# EAGLE library part XC3S1400AFG676 (library xilinx_spartan3_virtex4_and_5)
Xilinx FPGA
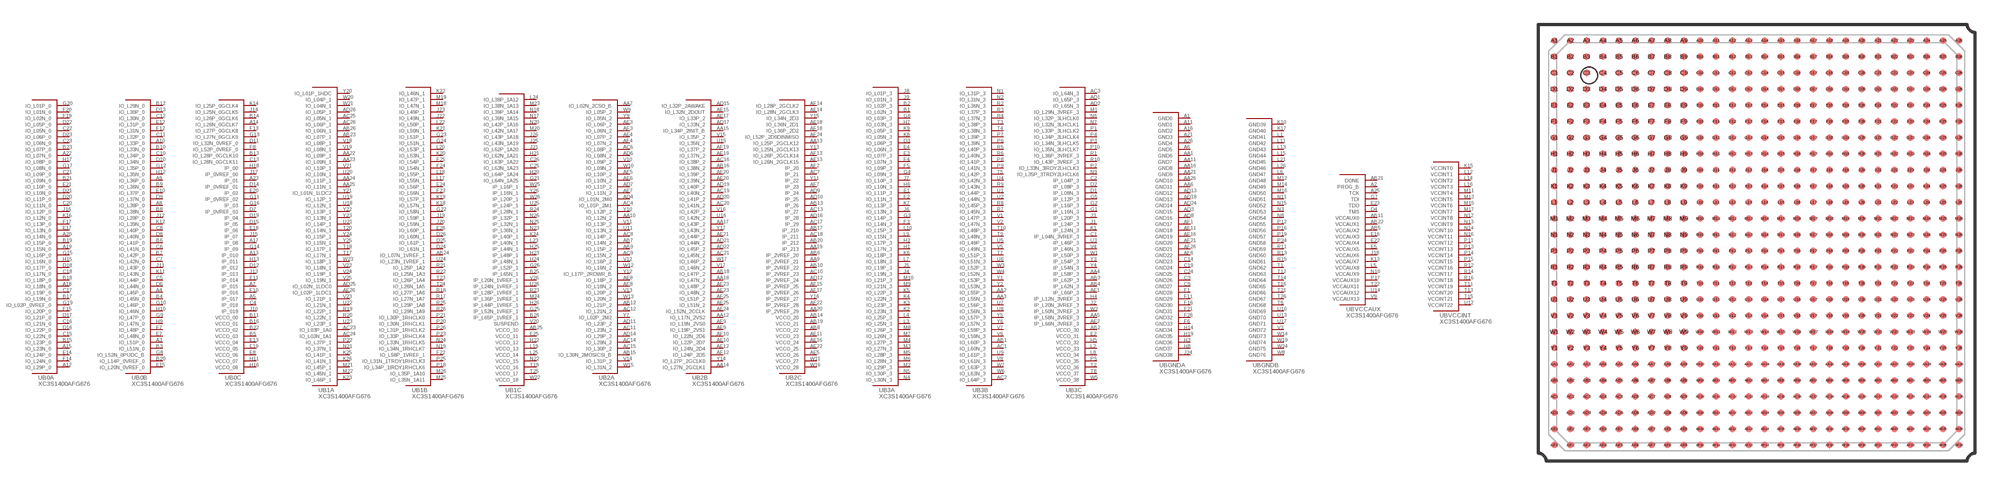
[diagram p38: symbol with the pads of FG676; footprint FG676]

Designator prefix U; gates B0A=XC3S1400AFG676_0A B0B=XC3S1400AFG676_0B B0C=XC3S1400AFG676_0C B1A=XC3S1400AFG676_1A B1B=XC3S1400AFG676_1B B1C=XC3S1400AFG676_1C B2A=XC3S1400AFG676_2A B2B=XC3S1400AFG676_2B B2C=XC3S1400AFG676_2C B3A=XC3S1400AFG676_3A B3B=XC3S1400AFG676_3B B3C=XC3S1400AFG676_3C BGNDA=XC3S1400AFG676_GNDA BGNDB=XC3S1400AFG676_GNDB BVCCAUX=XC3S1400AFG676_VCCAUX BVCCINT=XC3S1400AFG676_VCCINT

## XC3S1400AFG676  [FG676]
A1  BGNDA:GND0  pas
A2  BVCCAUX:PROG_B
A3  B0B:IO_L51P_0
A4  B0B:IO_L45P_0
A5  B0C:IP_017
A6  BGNDA:GND5  pas
A7  B0C:IP_015
A8  B0B:IO_L38P_0
A9  B0B:IO_L36P_0
A10  B0B:IO_L33P_0
A11  BGNDA:GND1  pas
A12  B0A:IO_L29P_0
A13  B0C:IP_010
A14  B0C:IO_L26N_0GCLK7
A15  B0A:IO_L23N_0
A16  BGNDA:GND2  pas
A17  B0C:IP_08
A18  B0A:IO_L18N_0
A19  B0A:IO_L15N_0
A20  B0A:IO_L14N_0
A21  BGNDA:GND3  pas
A22  B0A:IO_L07N_0
A23  B0C:IP_01
A25  BVCCAUX:TCK
A26  BGNDA:GND4  pas
AA1  BGNDA:GND6  pas
AA2  B3B:IO_L55P_3
AA3  B3B:IO_L55N_3
AA4  B3C:IP_L58P_3
AA5  B3C:IP_L58N_3VREF_3
AA6  BGNDA:GND11  pas
AA7  B2A:IO_L02N_2CSO_B
AA9  B2C:IP_2VREF_21
AA10  B2A:IO_L12N_2
AA11  BGNDA:GND7  pas
AA12  B2B:IO_L17N_2VS2
AA13  B2C:IO_L25P_2GCLK12
AA14  B2B:IO_L27N_2GCLK1
AA15  B2B:IO_L34P_2INIT_B
AA16  BGNDA:GND8  pas
AA17  B2B:IO_L43P_2
AA18  B2B:IO_L47N_2
AA19  B2C:IP_213
AA20  B2C:IP_2VREF_29
AA21  BGNDA:GND9  pas
AA22  B1A:IO_L09P_1
AA23  B1A:IO_L09N_1
AA24  B1A:IO_L11P_1
AA25  B1A:IO_L11N_1
AA26  BGNDA:GND10  pas
AB1  B3B:IO_L60P_3
AB2  B3C:VCCO_30  pas
AB3  B3C:IP_L62P_3
AB4  B3C:IP_L62N_3
AB5  BVCCAUX:VCCAUX2  pas
AB6  B2C:IP_2VREF_20
AB7  B2A:IO_L14N_2
AB8  B2C:VCCO_22  pas
AB9  B2A:IO_L15P_2
AB10  B2C:IP_2VREF_22
AB11  BVCCAUX:VCCAUX0  pas
AB12  B2A:IO_L21P_2
AB13  B2C:IP_26
AB14  B2C:VCCO_20  pas
AB15  B2A:IO_L30N_2MOSICSI_B
AB16  B2B:IO_L38N_2
AB17  B2C:IP_210
AB18  B2B:IO_L47P_2
AB19  B2C:VCCO_21  pas
AB20  B2C:IP_212
AB21  BVCCAUX:DONE
AB22  BVCCAUX:VCCAUX1  pas
AB23  B1A:IO_L07P_1
AB24  B1B:IO_L07N_1VREF_1
AB25  B1C:VCCO_10  pas
AB26  B1A:IO_L06N_1
AC1  B3B:IO_L60N_3
AC2  B3B:IO_L64P_3
AC3  B3C:IO_L64N_3
AC4  B2A:IO_L01P_2M1
AC6  B2A:IO_L08P_2
AC7  B2C:IP_21
AC8  B2A:IO_L14P_2
AC9  B2A:IO_L15N_2
AC10  B2C:IP_2VREF_23
AC11  B2A:IO_L23N_2
AC12  B2A:IO_L21N_2
AC13  B2C:IP_27
AC14  B2A:IO_L29N_2
AC15  B2A:IO_L30P_2
AC16  B2B:IO_L38P_2
AC17  B2C:IP_29
AC18  B2C:IP_211
AC19  B2B:IO_L40N_2
AC20  B2B:IO_L41N_2
AC21  B2B:IO_L45N_2
AC23  B1A:IO_L03P_1A0
AC24  B1A:IO_L03N_1A1
AC25  B1A:IO_L05N_1
AC26  B1A:IO_L06P_1
AD1  B3C:IO_L65P_3
AD2  B3C:IO_L65N_3
AD3  BGNDA:GND15  pas
AD4  B2A:IO_L01N_2M0
AD6  B2A:IO_L08N_2
AD7  B2A:IO_L11P_2
AD8  BGNDA:GND16  pas
AD9  B2C:IP_24
AD10  B2C:IP_25
AD11  B2A:IO_L23P_2
AD12  B2C:IP_2VREF_24
AD13  BGNDA:GND12  pas
AD14  B2A:IO_L29P_2
AD15  B2B:IO_L32P_2AWAKE
AD16  B2C:IP_28
AD17  B2B:IO_L33N_2
AD18  BGNDA:GND13  pas
AD19  B2B:IO_L40P_2
AD20  B2B:IO_L41P_2
AD21  B2B:IO_L44N_2
AD22  B2B:IO_L45P_2
AD24  BGNDA:GND14  pas
AD25  B1A:IO_L02N_1LDC0
AD26  B1A:IO_L05P_1
AE1  B3C:IP_L66P_3
AE2  B3C:IP_L66N_3VREF_3
AE3  B2A:IO_L06P_2
AE4  B2A:IO_L07P_2
AE5  B2C:VCCO_26  pas
AE6  B2A:IO_L10N_2
AE7  B2A:IO_L11N_2
AE8  B2A:IO_L18P_2
AE9  B2B:IO_L19P_2VS1
AE10  B2B:IO_L22P_2D7
AE11  B2C:VCCO_23  pas
AE12  B2B:IO_L24N_2D4
AE13  B2C:IO_L26N_2GCLK15
AE14  B2C:IO_L28N_2GCLK3
AE15  B2B:IO_L32N_2DOUT
AE16  B2C:VCCO_24  pas
AE17  B2B:IO_L33P_2
AE18  B2C:IO_L36N_2D1
AE19  B2B:IO_L37N_2
AE20  B2B:IO_L39N_2
AE21  B2B:IO_L44P_2
AE22  B2C:VCCO_25  pas
AE23  B2B:IO_L48N_2
AE24  B2B:IO_L52N_2CCLK
AE25  B2B:IO_L51N_2
AE26  B1A:IO_L02P_1LDC1
AF1  BGNDA:GND17  pas
AF2  B2C:IP_20
AF3  B2A:IO_L06N_2
AF4  B2A:IO_L07N_2
AF5  B2A:IO_L10P_2
AF6  BGNDA:GND22  pas
AF7  B2C:IP_23
AF8  B2A:IO_L18N_2
AF9  B2B:IO_L19N_2VS0
AF10  B2B:IO_L22N_2D6
AF11  BGNDA:GND18  pas
AF12  B2B:IO_L24P_2D5
AF13  B2C:IO_L26P_2GCLK14
AF14  B2C:IO_L28P_2GCLK2
AF15  B2C:IP_2VREF_25
AF16  BGNDA:GND19  pas
AF17  B2C:IP_2VREF_26
AF18  B2C:IO_L36P_2D2
AF19  B2B:IO_L37P_2
AF20  B2B:IO_L39P_2
AF21  BGNDA:GND20  pas
AF22  B2C:IP_2VREF_28
AF23  B2B:IO_L48P_2
AF24  B2C:IO_L52P_2D0DINMISO
AF25  B2B:IO_L51P_2
AF26  BGNDA:GND21  pas
B1  B3A:IO_L02N_3
B2  B3A:IO_L02P_3
B3  B0B:IO_L51N_0
B4  B0B:IO_L45N_0
B5  B0C:VCCO_03  pas
B6  B0B:IO_L41P_0
B7  B0B:IO_L42P_0
B8  B0B:IO_L38N_0
B9  B0B:IO_L36N_0
B10  B0B:IO_L33N_0
B11  B0C:VCCO_00  pas
B12  B0B:IO_L29N_0
B13  B0C:IO_L28P_0GCLK10
B14  B0C:IO_L26P_0GCLK6
B15  B0A:IO_L23P_0
B16  B0C:VCCO_01  pas
B17  B0A:IO_L19N_0
B18  B0A:IO_L18P_0
B19  B0A:IO_L15P_0
B20  B0B:IO_L14P_0VREF_0
B21  B0A:IO_L09N_0
B22  B0C:VCCO_02  pas
B23  B0A:IO_L07P_0
B25  B1C:IP_L65N_1
B26  B1C:IP_L65P_1VREF_1
C1  B3C:IP_L04N_3VREF_3
C2  B3C:IP_L04P_3
C3  BGNDA:GND26  pas
C4  B0C:IP_018
C5  B0B:IO_L44P_0
C6  B0B:IO_L41N_0
C7  B0B:IO_L42N_0
C8  B0B:IO_L40P_0
C9  BGNDA:GND27  pas
C10  B0B:IO_L34P_0
C11  B0B:IO_L32P_0
C12  B0B:IO_L30N_0
C13  B0C:IO_L28N_0GCLK11
C14  BGNDA:GND23  pas
C15  B0A:IO_L22N_0
C16  B0A:IO_L21N_0
C17  B0A:IO_L19P_0
C18  B0A:IO_L17N_0
C19  BGNDA:GND24  pas
C20  B0A:IO_L11N_0
C21  B0A:IO_L09P_0
C22  B0A:IO_L05N_0
C23  B0A:IO_L06N_0
C24  BGNDA:GND25  pas
C25  B1C:IO_L63N_1A23
C26  B1C:IO_L63P_1A22
D1  B3C:IP_L08N_3
D2  B3C:IP_L08P_3
D3  B3A:IO_L06P_3
D4  BVCCAUX:TMS
D6  B0B:IO_L44N_0
D7  B0C:IP_0VREF_03
D8  B0B:IO_L40N_0
D9  B0B:IO_L37N_0
D10  B0B:IO_L34N_0
D11  B0C:IO_L32N_0VREF_0
D12  B0C:IP_012
D13  B0B:IO_L30P_0
D14  B0C:IP_0VREF_01
D15  B0C:IP_05
D16  B0A:IO_L22P_0
D17  B0A:IO_L21P_0
D18  B0A:IO_L17P_0
D19  B0C:IP_04
D20  B0A:IO_L11P_0
D21  B0A:IO_L10N_0
D22  B0A:IO_L05P_0
D23  B0A:IO_L06P_0
D24  B1B:IO_L61N_1
D25  B1B:IO_L61P_1
D26  B1B:IO_L60N_1
E1  B3A:IO_L11P_3
E2  B3C:VCCO_31  pas
E3  B3A:IO_L07P_3
E4  B3A:IO_L06N_3
E5  BVCCAUX:VCCAUX5  pas
E7  B0B:IO_L48N_0
E8  B0C:VCCO_06  pas
E10  B0B:IO_L37P_0
E11  B0C:IP_014
E12  B0B:IO_L31P_0
E13  B0C:VCCO_04  pas
E14  B0A:IO_L24P_0
E15  B0B:IO_L20N_0VREF_0
E16  BVCCAUX:VCCAUX3  pas
E17  B0A:IO_L13N_0
E18  B0C:IP_06
E19  B0C:VCCO_05  pas
E20  B0C:IP_02
E21  B0A:IO_L10P_0
E22  BVCCAUX:VCCAUX4  pas
E23  BVCCAUX:TDO
E24  B1B:IO_L56P_1
E25  B1C:VCCO_11  pas
E26  B1B:IO_L60P_1
F1  BGNDA:GND28  pas
F2  B3A:IO_L11N_3
F3  B3A:IO_L14N_3
F4  B3A:IO_L07N_3
F5  B3A:IO_L09P_3
F6  BGNDA:GND33  pas
F7  B0B:IO_L48P_0
F8  B0C:IO_L52P_0VREF_0
F10  B0C:IP_016
F11  BGNDA:GND29  pas
F12  B0B:IO_L31N_0
F13  B0C:IO_L27P_0GCLK8
F14  B0A:IO_L24N_0
F15  B0A:IO_L20P_0
F16  BGNDA:GND30  pas
F17  B0A:IO_L13P_0
F19  B0A:IO_L02N_0
F20  B0A:IO_L01N_0
F21  BGNDA:GND31  pas
F22  B1B:IO_L58P_1VREF_1
F23  B1B:IO_L56N_1
F24  B1B:IO_L54N_1
F25  B1B:IO_L54P_1
F26  BGNDA:GND32  pas
G1  B3C:IP_L16N_3
G2  B3C:IP_L16P_3
G3  B3A:IO_L14P_3
G4  B3A:IO_L09N_3
G5  B3C:IP_L12P_3
G6  B3A:IO_L03P_3
G7  BVCCAUX:TDI
G8  B0B:IO_L52N_0PUDC_B
G9  B0B:IO_L47P_0
G10  B0B:IO_L46P_0
G11  B0C:IP_0VREF_02
G12  B0B:IO_L35P_0
G13  B0C:IO_L27N_0GCLK9
G14  B0C:IP_09
G15  B0A:IO_L16P_0
G16  B0C:IP_03
G17  B0A:IO_L08N_0
G19  B0A:IO_L02P_0VREF_0
G20  B0A:IO_L01P_0
G21  B1C:IO_L64N_1A25
G22  B1B:IO_L58N_1
G23  B1B:IO_L51P_1
G24  B1B:IO_L51N_1
G25  B1C:IP_L52N_1VREF_1
G26  B1C:IP_L52P_1
H1  B3A:IO_L17N_3
H2  B3A:IO_L17P_3
H3  BGNDA:GND36  pas
H4  B3C:IP_L12N_3VREF_3
H5  B3C:VCCO_32  pas
H6  B3A:IO_L10N_3
H7  B3A:IO_L03N_3
H8  BGNDA:GND37  pas
H9  B0B:IO_L47N_0
H10  B0B:IO_L46N_0
H11  B0C:VCCO_07  pas
H12  B0B:IO_L35N_0
H13  B0C:IP_011
H14  BGNDA:GND34  pas
H15  B0A:IO_L16N_0
H16  B0C:VCCO_08  pas
H17  B0A:IO_L08P_0
H18  B0C:IP_00
H19  BGNDA:GND35  pas
H20  B1C:IO_L64P_1A24
H21  B1C:IO_L62N_1A21
H22  B1C:VCCO_12  pas
H23  B1C:IP_L48P_1
H24  B1C:IP_L48N_1
H25  B1C:IP_L44N_1
H26  B1C:IP_L44P_1VREF_1
J1  B3C:IP_L24P_3
J2  B3C:IP_L20N_3VREF_3
J3  B3C:IP_L20P_3
J4  B3A:IO_L19N_3
J5  B3A:IO_L19P_3
J6  B3A:IO_L13N_3
J7  B3A:IO_L10P_3
J8  B3A:IO_L01P_3
J9  B3A:IO_L01N_3
J10  B0C:IP_019
J11  B0B:IO_L43P_0
J12  B0B:IO_L39P_0
J13  B0C:IP_013
J14  B0C:IO_L25N_0GCLK5
J15  B0C:IP_07
J16  B0A:IO_L12P_0
J17  B0C:IP_0VREF_00
J18  BVCCAUX:VCCAUX6  pas
J19  B1B:IO_L59P_1
J20  B1B:IO_L59N_1
J21  B1C:IO_L62P_1A20
J22  B1B:IO_L49N_1
J23  B1B:IO_L49P_1
J24  BGNDA:GND38  pas
J25  B1C:IO_L43N_1A19
J26  B1C:IO_L43P_1A18
K1  B3C:IP_L24N_3
K2  B3A:IO_L23N_3
K3  B3A:IO_L23P_3
K4  B3A:IO_L22N_3
K5  B3A:IO_L22P_3
K6  B3A:IO_L18P_3
K7  B3A:IO_L13P_3
K8  B3A:IO_L05N_3
K9  B3A:IO_L05P_3
K10  BGNDB:GND39  pas
K11  B0B:IO_L43N_0
K12  B0B:IO_L39N_0
K13  BVCCAUX:VCCAUX7  pas
K14  B0C:IO_L25P_0GCLK4
K15  BVCCINT:VCCINT0  pas
K16  B0A:IO_L12N_0
K17  BGNDB:GND40  pas
K18  B1B:IO_L57N_1
K19  B1B:IO_L57P_1
K20  B1B:IO_L53N_1
K21  B1B:IO_L50N_1
K22  B1B:IO_L46N_1
K23  B1A:IO_L46P_1
K24  B1C:IP_L40P_1
K25  B1A:IO_L41P_1
K26  B1A:IO_L41N_1
L1  BGNDB:GND41  pas
L2  B3C:VCCO_33  pas
L3  B3A:IO_L25N_3
L4  B3A:IO_L25P_3
L5  BVCCAUX:VCCAUX8  pas
L6  BGNDB:GND47  pas
L7  B3A:IO_L18N_3
L8  B3C:VCCO_34  pas
L9  B3A:IO_L15N_3
L10  B3A:IO_L15P_3
L11  BGNDB:GND42  pas
L12  BVCCINT:VCCINT1  pas
L13  BGNDB:GND43  pas
L14  BVCCINT:VCCINT2  pas
L15  BGNDB:GND44  pas
L16  BVCCINT:VCCINT3  pas
L17  B1B:IO_L55N_1
L18  B1B:IO_L55P_1
L19  B1C:VCCO_13  pas
L20  B1B:IO_L53P_1
L21  BGNDB:GND45  pas
L22  B1B:IO_L50P_1
L23  B1C:IP_L40N_1
L24  B1C:IO_L38P_1A12
L25  B1C:VCCO_14  pas
L26  BGNDB:GND46  pas
M1  B3C:IO_L29N_3VREF_3
M2  B3A:IO_L29P_3
M3  B3A:IO_L27N_3
M4  B3A:IO_L27P_3
M5  B3A:IO_L28P_3
M6  B3A:IO_L28N_3
M7  B3A:IO_L26N_3
M8  B3A:IO_L26P_3
M9  B3A:IO_L21N_3
M10  B3A:IO_L21P_3
M11  BVCCINT:VCCINT4  pas
M12  BGNDB:GND48  pas
M13  BVCCINT:VCCINT5  pas
M14  BGNDB:GND49  pas
M15  BVCCINT:VCCINT6  pas
M16  BGNDB:GND50  pas
M17  BVCCINT:VCCINT7  pas
M18  B1B:IO_L47N_1
M19  B1B:IO_L47P_1
M20  B1C:IO_L42N_1A17
M21  B1A:IO_L45P_1
M22  B1A:IO_L45N_1
M23  B1C:IO_L38N_1A13
M24  B1C:IP_L36P_1VREF_1
M25  B1B:IO_L35N_1A11
M26  B1B:IO_L35P_1A10
N1  B3B:IO_L31P_3
N2  B3B:IO_L31N_3
N3  BGNDB:GND53  pas
N4  B3A:IO_L30N_3
N5  B3A:IO_L30P_3
N6  B3C:IO_L32P_3LHCLK0
N7  B3C:IO_L32N_3LHCLK1
N8  BGNDB:GND54  pas
N9  B3C:IO_L35P_3TRDY2LHCLK6
N10  BVCCAUX:VCCAUX9  pas
N11  BGNDB:GND51  pas
N12  BVCCINT:VCCINT8  pas
N13  BVCCINT:VCCINT9  pas
N14  BVCCINT:VCCINT10  pas
N15  BGNDB:GND52  pas
N16  BVCCINT:VCCINT11  pas
N17  B1C:IO_L39N_1A15
N18  B1C:IO_L39P_1A14
N19  B1B:IO_L34N_1RHCLK7
N20  B1C:IO_L42P_1A16
N21  B1A:IO_L37N_1
N22  B1C:VCCO_15  pas
N23  B1C:IP_L36N_1
N24  B1B:IO_L33N_1RHCLK5
N25  B1C:IP_L32N_1
N26  B1C:IP_L32P_1
P1  B3C:IO_L33P_3LHCLK2
P2  B3C:IO_L33N_3IRDY2LHCLK3
P3  B3C:IO_L34N_3LHCLK5
P4  B3C:IO_L34P_3LHCLK4
P5  B3C:VCCO_35  pas
P6  B3B:IO_L39N_3
P7  B3B:IO_L39P_3
P8  B3B:IO_L41P_3
P9  B3B:IO_L41N_3
P10  B3C:IO_L35N_3LHCLK7
P11  BVCCINT:VCCINT12  pas
P12  BGNDB:GND55  pas
P13  BVCCINT:VCCINT13  pas
P14  BVCCINT:VCCINT14  pas
P15  BVCCINT:VCCINT15  pas
P16  BGNDB:GND56  pas
P17  BVCCAUX:VCCAUX10  pas
P18  B1B:IO_L34P_1IRDY1RHCLK6
P19  BGNDB:GND57  pas
P20  B1B:IO_L30N_1RHCLK1
P21  B1B:IO_L30P_1RHCLK0
P22  B1A:IO_L37P_1
P23  B1B:IO_L33P_1RHCLK4
P24  BGNDB:GND58  pas
P25  B1B:IO_L31N_1TRDY1RHCLK3
P26  B1B:IO_L31P_1RHCLK2
R1  B3C:IO_L36P_3VREF_3
R2  B3B:IO_L36N_3
R3  B3B:IO_L37P_3
R4  B3B:IO_L37N_3
R5  B3B:IO_L40P_3
R6  B3B:IO_L40N_3
R7  B3B:IO_L45N_3
R8  B3B:IO_L45P_3
R9  B3B:IO_L43N_3
R10  B3C:IO_L43P_3VREF_3
R11  BGNDB:GND59  pas
R12  BVCCINT:VCCINT16  pas
R13  BGNDB:GND60  pas
R14  BVCCINT:VCCINT17  pas
R15  BGNDB:GND61  pas
R16  BVCCINT:VCCINT18  pas
R17  B1B:IO_L27N_1A7
R18  B1B:IO_L27P_1A6
R19  B1A:IO_L22P_1
R20  B1A:IO_L22N_1
R21  B1B:IO_L25P_1A2
R22  B1B:IO_L25N_1A3
R23  B1C:IP_L28P_1VREF_1
R24  B1C:IP_L28N_1
R25  B1B:IO_L29P_1A8
R26  B1B:IO_L29N_1A9
T1  BGNDB:GND62  pas
T2  B3C:VCCO_36  pas
T3  B3B:IO_L38P_3
T4  B3B:IO_L38N_3
T5  B3B:IO_L42P_3
T6  BGNDB:GND68  pas
T7  B3B:IO_L51P_3
T8  B3C:VCCO_37  pas
T9  B3B:IO_L48N_3
T10  B3B:IO_L48P_3
T11  BVCCINT:VCCINT19  pas
T12  BGNDB:GND63  pas
T13  BVCCINT:VCCINT20  pas
T14  BGNDB:GND64  pas
T15  BVCCINT:VCCINT21  pas
T16  BGNDB:GND65  pas
T17  B1A:IO_L17N_1
T18  B1A:IO_L17P_1
T19  B1C:VCCO_16  pas
T20  B1A:IO_L14N_1
T21  BGNDB:GND66  pas
T22  BVCCAUX:VCCAUX11  pas
T23  B1B:IO_L26P_1A4
T24  B1B:IO_L26N_1A5
T25  B1C:VCCO_17  pas
T26  BGNDB:GND67  pas
U1  B3B:IO_L44P_3
U2  B3B:IO_L44N_3
U3  B3C:IP_L46P_3
U4  B3B:IO_L42N_3
U5  B3B:IO_L49P_3
U6  B3B:IO_L51N_3
U7  B3B:IO_L56P_3
U8  B3B:IO_L56N_3
U9  B3B:IO_L61P_3
U10  BGNDB:GND69  pas
U11  B2A:IO_L13N_2
U12  BVCCINT:VCCINT22  pas
U13  BGNDB:GND70  pas
U14  BVCCAUX:VCCAUX12  pas
U15  B2B:IO_L35N_2
U16  B2B:IO_L42N_2
U17  BGNDB:GND71  pas
U18  B1A:IO_L12N_1
U19  B1A:IO_L12P_1
U20  B1A:IO_L10N_1
U21  B1A:IO_L14P_1
U22  B1A:IO_L21N_1
U23  B1A:IO_L23P_1
U24  B1B:IO_L23N_1VREF_1
U25  B1C:IP_L24P_1
U26  B1C:IP_L24N_1VREF_1
V1  B3B:IO_L47P_3
V2  B3B:IO_L47N_3
V3  BGNDB:GND72  pas
V4  B3C:IP_L46N_3
V5  B3B:IO_L49N_3
V6  B3B:IO_L59N_3
V7  B3B:IO_L59P_3
V8  B3B:IO_L61N_3
V9  BVCCAUX:VCCAUX13  pas
V10  B2A:IO_L09P_2
V11  B2A:IO_L13P_2
V12  B2A:IO_L16P_2
V13  B2A:IO_L20P_2
V14  B2A:IO_L31P_2
V15  B2B:IO_L35P_2
V16  B2B:IO_L42P_2
V17  B2B:IO_L46N_2
V18  B1A:IO_L08P_1
V19  B1A:IO_L08N_1
V20  B1C:SUSPEND
V21  B1A:IO_L10P_1
V22  B1A:IO_L18N_1
V23  B1A:IO_L21P_1
V24  B1A:IO_L19P_1
V25  B1A:IO_L19N_1
V26  B1C:IP_L20N_1VREF_1
W1  B3C:IP_L50P_3
W2  B3C:IP_L50N_3VREF_3
W3  B3B:IO_L52P_3
W4  B3B:IO_L52N_3
W5  B3C:VCCO_38  pas
W6  B3B:IO_L63N_3
W7  B3B:IO_L63P_3
W8  BGNDB:GND76  pas
W9  B2A:IO_L05P_2
W10  B2A:IO_L09N_2
W11  B2C:VCCO_27  pas
W12  B2A:IO_L16N_2
W13  B2A:IO_L20N_2
W14  BGNDB:GND73  pas
W15  B2A:IO_L31N_2
W16  B2C:VCCO_28  pas
W17  B2B:IO_L46P_2
W19  BGNDB:GND74  pas
W20  B1A:IO_L04P_1
W21  B1A:IO_L04N_1
W22  B1C:VCCO_18  pas
W23  B1A:IO_L18P_1
W24  BGNDB:GND75  pas
W25  B1C:IP_L16P_1
W26  B1C:IP_L20P_1
Y1  B3B:IO_L53P_3
Y2  B3B:IO_L53N_3
Y3  B3C:IP_L54P_3
Y4  B3C:IP_L54N_3
Y5  B3B:IO_L57P_3
Y6  B3B:IO_L57N_3
Y7  B2A:IO_L02P_2M2
Y9  B2A:IO_L05N_2
Y10  B2A:IO_L12P_2
Y11  B2C:IP_22
Y12  B2A:IO_L17P_2RDWR_B
Y13  B2C:IO_L25N_2GCLK13
Y14  B2B:IO_L27P_2GCLK0
Y15  B2C:IO_L34N_2D3
Y16  B2C:IP_2VREF_27
Y17  B2B:IO_L43N_2
Y20  B1A:IO_L01P_1HDC
Y21  B1A:IO_L01N_1LDC2
Y22  B1A:IO_L13P_1
Y23  B1A:IO_L13N_1
Y24  B1A:IO_L15P_1
Y25  B1A:IO_L15N_1
Y26  B1C:IP_L16N_1

## Footprint FG676 (pad centres in mm)
smd 0.4 x 0.4: A1 -12.5,12.5; A2 -11.5,12.5; A3 -10.5,12.5; A4 -9.5,12.5; A5 -8.5,12.5; A6 -7.5,12.5; A7 -6.5,12.5; A8 -5.5,12.5; A9 -4.5,12.5; A10 -3.5,12.5; A11 -2.5,12.5; A12 -1.5,12.5; A13 -0.5,12.5; A14 0.5,12.5; A15 1.5,12.5; A16 2.5,12.5; A17 3.5,12.5; A18 4.5,12.5; A19 5.5,12.5; A20 6.5,12.5; A21 7.5,12.5; A22 8.5,12.5; A23 9.5,12.5; A24 10.5,12.5; A25 11.5,12.5; A26 12.5,12.5; AA1 -12.5,-7.5; AA2 -11.5,-7.5; AA3 -10.5,-7.5; AA4 -9.5,-7.5; AA5 -8.5,-7.5; AA6 -7.5,-7.5; AA7 -6.5,-7.5; AA8 -5.5,-7.5; AA9 -4.5,-7.5; AA10 -3.5,-7.5; AA11 -2.5,-7.5; AA12 -1.5,-7.5; AA13 -0.5,-7.5; AA14 0.5,-7.5; AA15 1.5,-7.5; AA16 2.5,-7.5; AA17 3.5,-7.5; AA18 4.5,-7.5; AA19 5.5,-7.5; AA20 6.5,-7.5; AA21 7.5,-7.5; AA22 8.5,-7.5; AA23 9.5,-7.5; AA24 10.5,-7.5; AA25 11.5,-7.5; AA26 12.5,-7.5; AB1 -12.5,-8.5; AB2 -11.5,-8.5; AB3 -10.5,-8.5; AB4 -9.5,-8.5; AB5 -8.5,-8.5; AB6 -7.5,-8.5; AB7 -6.5,-8.5; AB8 -5.5,-8.5; AB9 -4.5,-8.5; AB10 -3.5,-8.5; AB11 -2.5,-8.5; AB12 -1.5,-8.5; AB13 -0.5,-8.5; AB14 0.5,-8.5; AB15 1.5,-8.5; AB16 2.5,-8.5; AB17 3.5,-8.5; AB18 4.5,-8.5; AB19 5.5,-8.5; AB20 6.5,-8.5; AB21 7.5,-8.5; AB22 8.5,-8.5; AB23 9.5,-8.5; AB24 10.5,-8.5; AB25 11.5,-8.5; AB26 12.5,-8.5; AC1 -12.5,-9.5; AC2 -11.5,-9.5; AC3 -10.5,-9.5; AC4 -9.5,-9.5; AC5 -8.5,-9.5; AC6 -7.5,-9.5; AC7 -6.5,-9.5; AC8 -5.5,-9.5; AC9 -4.5,-9.5; AC10 -3.5,-9.5; AC11 -2.5,-9.5; AC12 -1.5,-9.5; AC13 -0.5,-9.5; AC14 0.5,-9.5; AC15 1.5,-9.5; AC16 2.5,-9.5; AC17 3.5,-9.5; AC18 4.5,-9.5; AC19 5.5,-9.5; AC20 6.5,-9.5; AC21 7.5,-9.5; AC22 8.5,-9.5; AC23 9.5,-9.5; AC24 10.5,-9.5; AC25 11.5,-9.5; AC26 12.5,-9.5; AD1 -12.5,-10.5; AD2 -11.5,-10.5; AD3 -10.5,-10.5; AD4 -9.5,-10.5; AD5 -8.5,-10.5; AD6 -7.5,-10.5; AD7 -6.5,-10.5; AD8 -5.5,-10.5; AD9 -4.5,-10.5; AD10 -3.5,-10.5; AD11 -2.5,-10.5; AD12 -1.5,-10.5; AD13 -0.5,-10.5; AD14 0.5,-10.5; AD15 1.5,-10.5; AD16 2.5,-10.5; AD17 3.5,-10.5; AD18 4.5,-10.5; AD19 5.5,-10.5; AD20 6.5,-10.5; AD21 7.5,-10.5; AD22 8.5,-10.5; AD23 9.5,-10.5; AD24 10.5,-10.5; AD25 11.5,-10.5; AD26 12.5,-10.5; AE1 -12.5,-11.5; AE2 -11.5,-11.5; AE3 -10.5,-11.5; AE4 -9.5,-11.5; AE5 -8.5,-11.5; AE6 -7.5,-11.5; AE7 -6.5,-11.5; AE8 -5.5,-11.5; AE9 -4.5,-11.5; AE10 -3.5,-11.5; AE11 -2.5,-11.5; AE12 -1.5,-11.5; AE13 -0.5,-11.5; AE14 0.5,-11.5; AE15 1.5,-11.5; AE16 2.5,-11.5; AE17 3.5,-11.5; AE18 4.5,-11.5; AE19 5.5,-11.5; AE20 6.5,-11.5; AE21 7.5,-11.5; AE22 8.5,-11.5; AE23 9.5,-11.5; AE24 10.5,-11.5; AE25 11.5,-11.5; AE26 12.5,-11.5; AF1 -12.5,-12.5; AF2 -11.5,-12.5; AF3 -10.5,-12.5; AF4 -9.5,-12.5; AF5 -8.5,-12.5; AF6 -7.5,-12.5; AF7 -6.5,-12.5; AF8 -5.5,-12.5; AF9 -4.5,-12.5; AF10 -3.5,-12.5; AF11 -2.5,-12.5; AF12 -1.5,-12.5; AF13 -0.5,-12.5; AF14 0.5,-12.5; AF15 1.5,-12.5; AF16 2.5,-12.5; AF17 3.5,-12.5; AF18 4.5,-12.5; AF19 5.5,-12.5; AF20 6.5,-12.5; AF21 7.5,-12.5; AF22 8.5,-12.5; AF23 9.5,-12.5; AF24 10.5,-12.5; AF25 11.5,-12.5; AF26 12.5,-12.5; B1 -12.5,11.5; B2 -11.5,11.5; B3 -10.5,11.5; B4 -9.5,11.5; B5 -8.5,11.5; B6 -7.5,11.5; B7 -6.5,11.5; B8 -5.5,11.5; B9 -4.5,11.5; B10 -3.5,11.5; B11 -2.5,11.5; B12 -1.5,11.5; B13 -0.5,11.5; B14 0.5,11.5; B15 1.5,11.5; B16 2.5,11.5; B17 3.5,11.5; B18 4.5,11.5; B19 5.5,11.5; B20 6.5,11.5; B21 7.5,11.5; B22 8.5,11.5; B23 9.5,11.5; B24 10.5,11.5; B25 11.5,11.5; B26 12.5,11.5; C1 -12.5,10.5; C2 -11.5,10.5; C3 -10.5,10.5; C4 -9.5,10.5; C5 -8.5,10.5; C6 -7.5,10.5; C7 -6.5,10.5; C8 -5.5,10.5; C9 -4.5,10.5; C10 -3.5,10.5; C11 -2.5,10.5; C12 -1.5,10.5; C13 -0.5,10.5; C14 0.5,10.5; C15 1.5,10.5; C16 2.5,10.5; C17 3.5,10.5; C18 4.5,10.5; C19 5.5,10.5; C20 6.5,10.5; C21 7.5,10.5; C22 8.5,10.5; C23 9.5,10.5; C24 10.5,10.5; C25 11.5,10.5; C26 12.5,10.5; D1 -12.5,9.5; D2 -11.5,9.5; D3 -10.5,9.5; D4 -9.5,9.5; D5 -8.5,9.5; D6 -7.5,9.5; D7 -6.5,9.5; D8 -5.5,9.5; D9 -4.5,9.5; D10 -3.5,9.5; D11 -2.5,9.5; D12 -1.5,9.5; D13 -0.5,9.5; D14 0.5,9.5; D15 1.5,9.5; D16 2.5,9.5; D17 3.5,9.5; D18 4.5,9.5; D19 5.5,9.5; D20 6.5,9.5; D21 7.5,9.5; D22 8.5,9.5; D23 9.5,9.5; D24 10.5,9.5; D25 11.5,9.5; D26 12.5,9.5; E1 -12.5,8.5; E2 -11.5,8.5; E3 -10.5,8.5; E4 -9.5,8.5; E5 -8.5,8.5; E6 -7.5,8.5; E7 -6.5,8.5; E8 -5.5,8.5; E9 -4.5,8.5; E10 -3.5,8.5; E11 -2.5,8.5; E12 -1.5,8.5; E13 -0.5,8.5; E14 0.5,8.5; E15 1.5,8.5; E16 2.5,8.5; E17 3.5,8.5; E18 4.5,8.5; E19 5.5,8.5; E20 6.5,8.5; E21 7.5,8.5; E22 8.5,8.5; E23 9.5,8.5; E24 10.5,8.5; E25 11.5,8.5; E26 12.5,8.5; F1 -12.5,7.5; F2 -11.5,7.5; F3 -10.5,7.5; F4 -9.5,7.5; F5 -8.5,7.5; F6 -7.5,7.5; F7 -6.5,7.5; F8 -5.5,7.5; F9 -4.5,7.5; F10 -3.5,7.5; F11 -2.5,7.5; F12 -1.5,7.5; F13 -0.5,7.5; F14 0.5,7.5; F15 1.5,7.5; F16 2.5,7.5; F17 3.5,7.5; F18 4.5,7.5; F19 5.5,7.5; F20 6.5,7.5; F21 7.5,7.5; F22 8.5,7.5; F23 9.5,7.5; F24 10.5,7.5; F25 11.5,7.5; F26 12.5,7.5; G1 -12.5,6.5; G2 -11.5,6.5; G3 -10.5,6.5; G4 -9.5,6.5; G5 -8.5,6.5; G6 -7.5,6.5; G7 -6.5,6.5; G8 -5.5,6.5; G9 -4.5,6.5; G10 -3.5,6.5; G11 -2.5,6.5; G12 -1.5,6.5; G13 -0.5,6.5; G14 0.5,6.5; G15 1.5,6.5; G16 2.5,6.5; G17 3.5,6.5; G18 4.5,6.5; G19 5.5,6.5; G20 6.5,6.5; G21 7.5,6.5; G22 8.5,6.5; G23 9.5,6.5; G24 10.5,6.5; G25 11.5,6.5; G26 12.5,6.5; H1 -12.5,5.5; H2 -11.5,5.5; H3 -10.5,5.5; H4 -9.5,5.5; H5 -8.5,5.5; H6 -7.5,5.5; H7 -6.5,5.5; H8 -5.5,5.5; H9 -4.5,5.5; H10 -3.5,5.5; H11 -2.5,5.5; H12 -1.5,5.5; H13 -0.5,5.5; H14 0.5,5.5; H15 1.5,5.5; H16 2.5,5.5; H17 3.5,5.5; H18 4.5,5.5; H19 5.5,5.5; H20 6.5,5.5; H21 7.5,5.5; H22 8.5,5.5; H23 9.5,5.5; H24 10.5,5.5; H25 11.5,5.5; H26 12.5,5.5; J1 -12.5,4.5; J2 -11.5,4.5; J3 -10.5,4.5; J4 -9.5,4.5; J5 -8.5,4.5; J6 -7.5,4.5; J7 -6.5,4.5; J8 -5.5,4.5; J9 -4.5,4.5; J10 -3.5,4.5; J11 -2.5,4.5; J12 -1.5,4.5; J13 -0.5,4.5; J14 0.5,4.5; J15 1.5,4.5; J16 2.5,4.5; J17 3.5,4.5; J18 4.5,4.5; J19 5.5,4.5; J20 6.5,4.5; J21 7.5,4.5; J22 8.5,4.5; J23 9.5,4.5; J24 10.5,4.5; J25 11.5,4.5; J26 12.5,4.5; K1 -12.5,3.5; K2 -11.5,3.5; K3 -10.5,3.5; K4 -9.5,3.5; K5 -8.5,3.5; K6 -7.5,3.5; K7 -6.5,3.5; K8 -5.5,3.5; K9 -4.5,3.5; K10 -3.5,3.5; K11 -2.5,3.5; K12 -1.5,3.5; K13 -0.5,3.5; K14 0.5,3.5; K15 1.5,3.5; K16 2.5,3.5; K17 3.5,3.5; K18 4.5,3.5; K19 5.5,3.5; K20 6.5,3.5; K21 7.5,3.5; K22 8.5,3.5; K23 9.5,3.5; K24 10.5,3.5; K25 11.5,3.5; K26 12.5,3.5; L1 -12.5,2.5; L2 -11.5,2.5; L3 -10.5,2.5; L4 -9.5,2.5; L5 -8.5,2.5; L6 -7.5,2.5; L7 -6.5,2.5; L8 -5.5,2.5; L9 -4.5,2.5; L10 -3.5,2.5; L11 -2.5,2.5; L12 -1.5,2.5; L13 -0.5,2.5; L14 0.5,2.5; L15 1.5,2.5; L16 2.5,2.5; L17 3.5,2.5; L18 4.5,2.5; L19 5.5,2.5; L20 6.5,2.5; L21 7.5,2.5; L22 8.5,2.5; L23 9.5,2.5; L24 10.5,2.5; L25 11.5,2.5; L26 12.5,2.5; M1 -12.5,1.5; M2 -11.5,1.5; M3 -10.5,1.5; M4 -9.5,1.5; M5 -8.5,1.5; M6 -7.5,1.5; M7 -6.5,1.5; M8 -5.5,1.5; M9 -4.5,1.5; M10 -3.5,1.5; M11 -2.5,1.5; M12 -1.5,1.5; M13 -0.5,1.5; M14 0.5,1.5; M15 1.5,1.5; M16 2.5,1.5; M17 3.5,1.5; M18 4.5,1.5; M19 5.5,1.5; M20 6.5,1.5; M21 7.5,1.5; M22 8.5,1.5; M23 9.5,1.5; M24 10.5,1.5; M25 11.5,1.5; M26 12.5,1.5; N1 -12.5,0.5; N2 -11.5,0.5; N3 -10.5,0.5; N4 -9.5,0.5; N5 -8.5,0.5; N6 -7.5,0.5; N7 -6.5,0.5; N8 -5.5,0.5; N9 -4.5,0.5; N10 -3.5,0.5; N11 -2.5,0.5; N12 -1.5,0.5; N13 -0.5,0.5; N14 0.5,0.5; N15 1.5,0.5; N16 2.5,0.5; N17 3.5,0.5; N18 4.5,0.5; N19 5.5,0.5; N20 6.5,0.5; N21 7.5,0.5; N22 8.5,0.5; N23 9.5,0.5; N24 10.5,0.5; N25 11.5,0.5; N26 12.5,0.5; P1 -12.5,-0.5; P2 -11.5,-0.5; P3 -10.5,-0.5; P4 -9.5,-0.5; P5 -8.5,-0.5; P6 -7.5,-0.5; P7 -6.5,-0.5; P8 -5.5,-0.5; P9 -4.5,-0.5; P10 -3.5,-0.5; P11 -2.5,-0.5; P12 -1.5,-0.5; P13 -0.5,-0.5; P14 0.5,-0.5; P15 1.5,-0.5; P16 2.5,-0.5; P17 3.5,-0.5; P18 4.5,-0.5; P19 5.5,-0.5; P20 6.5,-0.5; P21 7.5,-0.5; P22 8.5,-0.5; P23 9.5,-0.5; P24 10.5,-0.5; P25 11.5,-0.5; P26 12.5,-0.5; R1 -12.5,-1.5; R2 -11.5,-1.5; R3 -10.5,-1.5; R4 -9.5,-1.5; R5 -8.5,-1.5; R6 -7.5,-1.5; R7 -6.5,-1.5; R8 -5.5,-1.5; R9 -4.5,-1.5; R10 -3.5,-1.5; R11 -2.5,-1.5; R12 -1.5,-1.5; R13 -0.5,-1.5; R14 0.5,-1.5; R15 1.5,-1.5; R16 2.5,-1.5; R17 3.5,-1.5; R18 4.5,-1.5; R19 5.5,-1.5; R20 6.5,-1.5; R21 7.5,-1.5; R22 8.5,-1.5; R23 9.5,-1.5; R24 10.5,-1.5; R25 11.5,-1.5; R26 12.5,-1.5; T1 -12.5,-2.5; T2 -11.5,-2.5; T3 -10.5,-2.5; T4 -9.5,-2.5; T5 -8.5,-2.5; T6 -7.5,-2.5; T7 -6.5,-2.5; T8 -5.5,-2.5; T9 -4.5,-2.5; T10 -3.5,-2.5; T11 -2.5,-2.5; T12 -1.5,-2.5; T13 -0.5,-2.5; T14 0.5,-2.5; T15 1.5,-2.5; T16 2.5,-2.5; T17 3.5,-2.5; T18 4.5,-2.5; T19 5.5,-2.5; T20 6.5,-2.5; T21 7.5,-2.5; T22 8.5,-2.5; T23 9.5,-2.5; T24 10.5,-2.5; T25 11.5,-2.5; T26 12.5,-2.5; U1 -12.5,-3.5; U2 -11.5,-3.5; U3 -10.5,-3.5; U4 -9.5,-3.5; U5 -8.5,-3.5; U6 -7.5,-3.5; U7 -6.5,-3.5; U8 -5.5,-3.5; U9 -4.5,-3.5; U10 -3.5,-3.5; U11 -2.5,-3.5; U12 -1.5,-3.5; U13 -0.5,-3.5; U14 0.5,-3.5; U15 1.5,-3.5; U16 2.5,-3.5; U17 3.5,-3.5; U18 4.5,-3.5; U19 5.5,-3.5; U20 6.5,-3.5; U21 7.5,-3.5; U22 8.5,-3.5; U23 9.5,-3.5; U24 10.5,-3.5; U25 11.5,-3.5; U26 12.5,-3.5; V1 -12.5,-4.5; V2 -11.5,-4.5; V3 -10.5,-4.5; V4 -9.5,-4.5; V5 -8.5,-4.5; V6 -7.5,-4.5; V7 -6.5,-4.5; V8 -5.5,-4.5; V9 -4.5,-4.5; V10 -3.5,-4.5; V11 -2.5,-4.5; V12 -1.5,-4.5; V13 -0.5,-4.5; V14 0.5,-4.5; V15 1.5,-4.5; V16 2.5,-4.5; V17 3.5,-4.5; V18 4.5,-4.5; V19 5.5,-4.5; V20 6.5,-4.5; V21 7.5,-4.5; V22 8.5,-4.5; V23 9.5,-4.5; V24 10.5,-4.5; V25 11.5,-4.5; V26 12.5,-4.5; W1 -12.5,-5.5; W2 -11.5,-5.5; W3 -10.5,-5.5; W4 -9.5,-5.5; W5 -8.5,-5.5; W6 -7.5,-5.5; W7 -6.5,-5.5; W8 -5.5,-5.5; W9 -4.5,-5.5; W10 -3.5,-5.5; W11 -2.5,-5.5; W12 -1.5,-5.5; W13 -0.5,-5.5; W14 0.5,-5.5; W15 1.5,-5.5; W16 2.5,-5.5; W17 3.5,-5.5; W18 4.5,-5.5; W19 5.5,-5.5; W20 6.5,-5.5; W21 7.5,-5.5; W22 8.5,-5.5; W23 9.5,-5.5; W24 10.5,-5.5; W25 11.5,-5.5; W26 12.5,-5.5; Y1 -12.5,-6.5; Y2 -11.5,-6.5; Y3 -10.5,-6.5; Y4 -9.5,-6.5; Y5 -8.5,-6.5; Y6 -7.5,-6.5; Y7 -6.5,-6.5; Y8 -5.5,-6.5; Y9 -4.5,-6.5; Y10 -3.5,-6.5; Y11 -2.5,-6.5; Y12 -1.5,-6.5; Y13 -0.5,-6.5; Y14 0.5,-6.5; Y15 1.5,-6.5; Y16 2.5,-6.5; Y17 3.5,-6.5; Y18 4.5,-6.5; Y19 5.5,-6.5; Y20 6.5,-6.5; Y21 7.5,-6.5; Y22 8.5,-6.5; Y23 9.5,-6.5; Y24 10.5,-6.5; Y25 11.5,-6.5; Y26 12.5,-6.5